# Altium schematic symbol library Altium-CONN.SchLib: 131 symbols
Pins are listed as number, name and electrical type; pins without a type are passive.

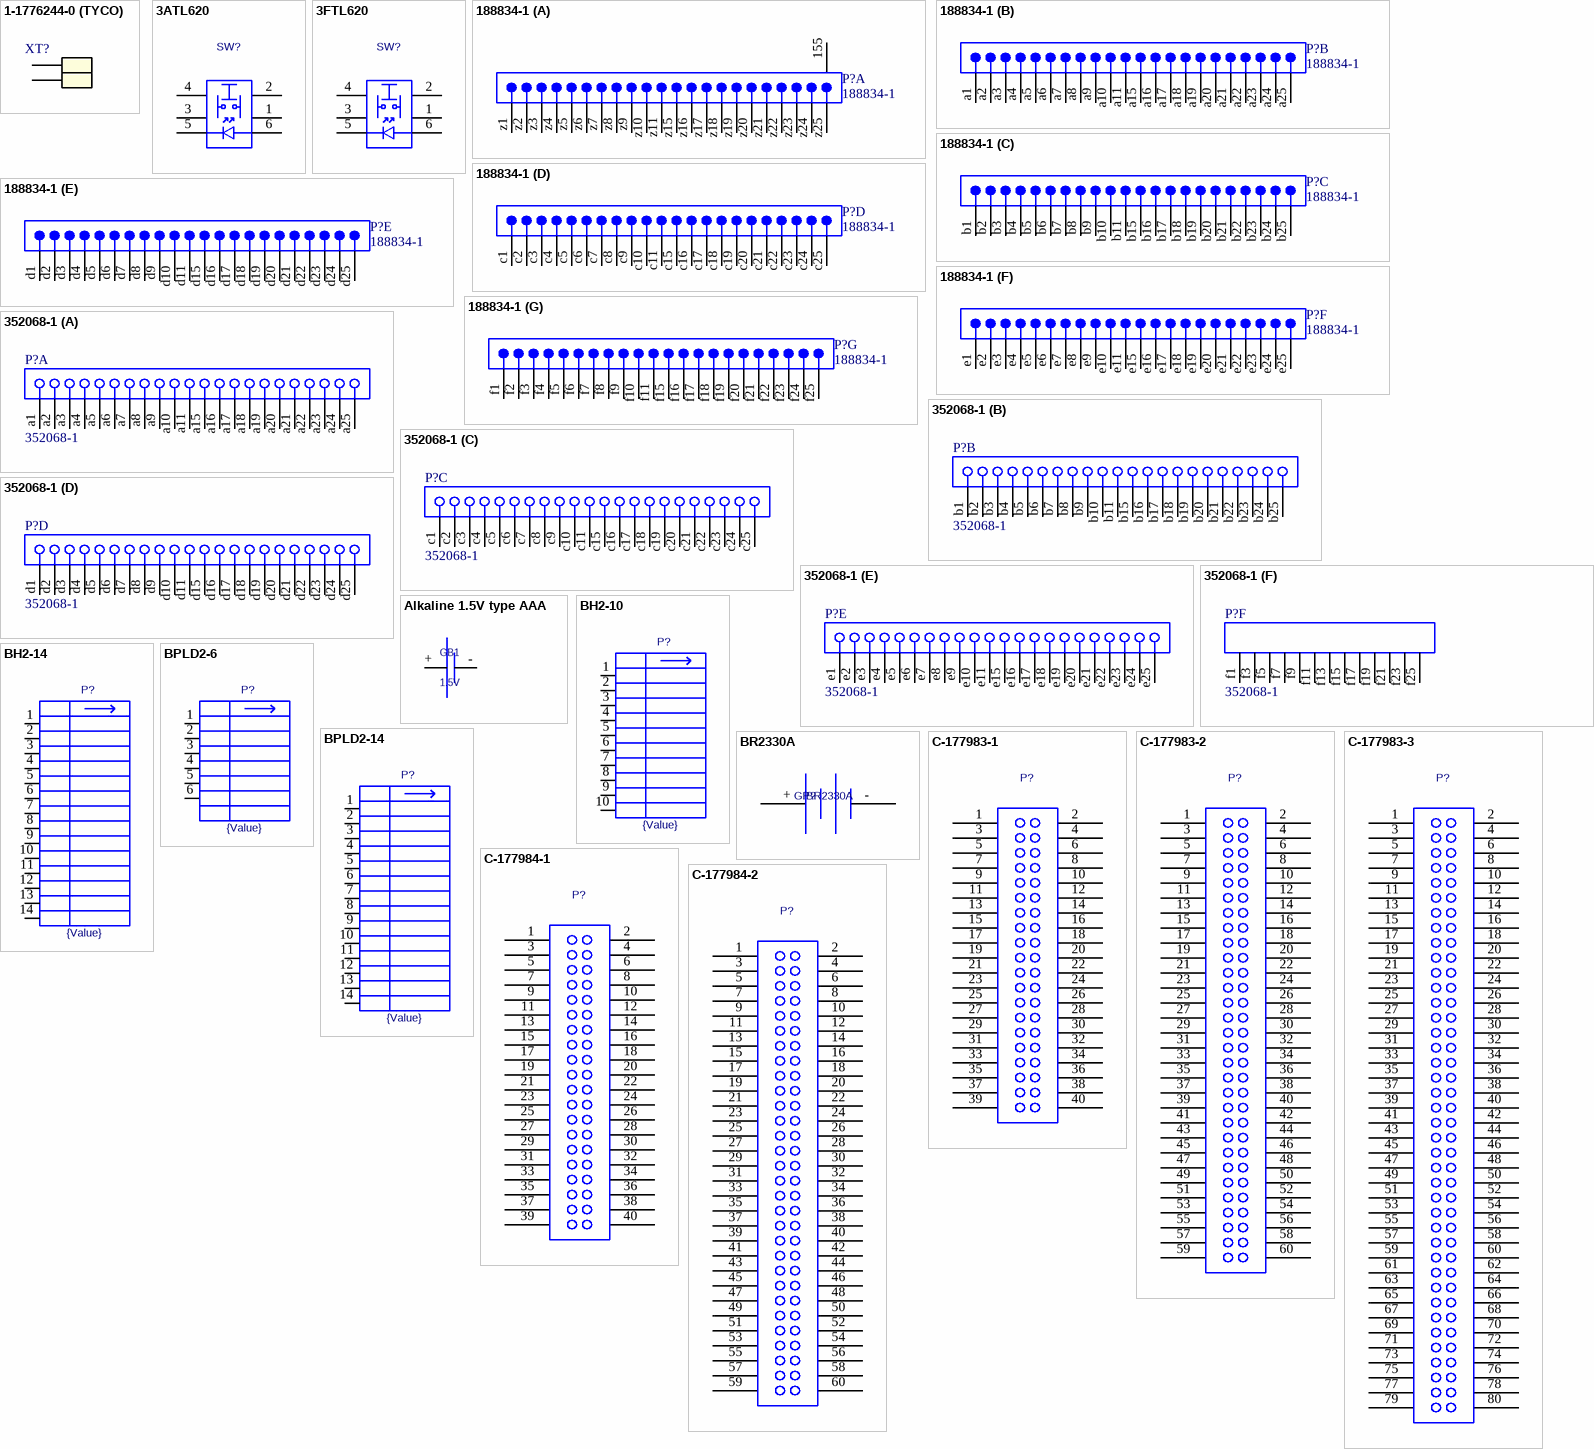
[diagram p0: symbols 1-1776244-0 (TYCO) to C-177984-2]

## 1-1776244-0 (TYCO)
designator XT?  (value not drawn)
Винтовой клеммник 5.0мм
footprint 1-1776244-0 (Винтовой клеммник 5.0мм)
pins: 1, 2

## 3ATL620
designator SW?  (value not drawn)
Multimec switch 3Aseries, w/greenled, 9.2mm; Value: *
footprint 3ATL600 (through-hole, multimec switch w/led)
pins: 1 pin1, 2 pin3, 3 pin1, 4 pin1, 5 k, 6 a

## 3FTL620
designator SW?  (value not drawn)
Multimec switch 3F series, w/greenled, 12.7mm; Value: *
footprint 3FTL600 (through-hole, multimec switch w/led)
pins: 1 pin1, 2 pin3, 3 pin1, 4 pin1, 5 k, 6 a

## 188834-1
designator P?
Z-Pack 2mm Hard Metric Type A 154 Position Male PCB Mount Connector; ContactMaterial: Phosphor Bronze; ContactPlating: Gold (30) over Nickel (50); Positions: 154; PCB_Layout: Complies with manufacturer's recommendation.; DrillSize: Corresponds to nominal value.; Published: 17-Jul-2002; LatestRevisionDate: 29-May-2009; LatestRevisionNote: Component Body Added.; DatasheetVersion: 22-Jan-1999; PackageVersion: 22-Jan-1999; PackageReference: 188834-1; Publisher: Altium Limited; Orientation: Vertical; HousingMaterial: Glass-Filled Polyester, UL 94V-0; ComponentLink1Description: Manufacturer Link; ComponentLink1URL: http://www.tycoelectronics.com/; ComponentLink2Description: Packaging Specification; ComponentLink2URL: http://ecommas.tycoelectronics.com/commerce/DocumentDelivery/DDEController?Action=showdoc&DocId=Customer+Drawing%7F188834%7FB%7Fpdf%7FEnglish%7FENG_CD_188834_B.pdf; ComponentLink3Description: Iges Model; ComponentLink3URL: http://catalog.tycoelectronics.com/TE/docs/cadgeo/0/75/38570.tar.gz
footprint 188834-1 (Connector; CompactPCI; 154 Position; Vertical)
signal-integrity model CompactPCI
part A pins: 155 MH1, z1, z2, z3, z4, z5, z6, z7, z8, z9, z10, z11, z15, z16, z17, z18, z19, z20, z21, z22, z23, z24, z25
part B pins: a1, a2, a3, a4, a5, a6, a7, a8, a9, a10, a11, a15, a16, a17, a18, a19, a20, a21, a22, a23, a24, a25
part C pins: b1, b2, b3, b4, b5, b6, b7, b8, b9, b10, b11, b15, b16, b17, b18, b19, b20, b21, b22, b23, b24, b25
part D pins: c1, c2, c3, c4, c5, c6, c7, c8, c9, c10, c11, c15, c16, c17, c18, c19, c20, c21, c22, c23, c24, c25
part E pins: d1, d2, d3, d4, d5, d6, d7, d8, d9, d10, d11, d15, d16, d17, d18, d19, d20, d21, d22, d23, d24, d25
part F pins: e1, e2, e3, e4, e5, e6, e7, e8, e9, e10, e11, e15, e16, e17, e18, e19, e20, e21, e22, e23, e24, e25
part G pins: f1, f2, f3, f4, f5, f6, f7, f8, f9, f10, f11, f15, f16, f17, f18, f19, f20, f21, f22, f23, f24, f25

## 352068-1
designator P?
Z-Pack 2mm Hard Metric Type A 110 Position Female PCB Mount Connector; ContactMaterial: Phosphor Bronze; ContactPlating: Gold (30) over Nickel (50); Positions: 110; PCB_Layout: Complies with manufacturer's recommendation.; DrillSize: Corresponds to nominal value.; Published: 17-Jul-2002; LatestRevisionDate: 29-May-2009; LatestRevisionNote: Component Body Added.; DatasheetVersion: 19-Jul-2000; PackageVersion: 19-Jul-2000; PackageReference: 352068-1; Publisher: Altium Limited; Orientation: Right Angle; HousingMaterial: Glass-Filled Polyester, UL 94V-0; ComponentLink1Description: Manufacturer Link; ComponentLink1URL: http://www.tycoelectronics.com/; ComponentLink2Description: Packaging Specification; ComponentLink2URL: http://ecommas.tycoelectronics.com/commerce/DocumentDelivery/DDEController?Action=showdoc&DocId=Customer+Drawing%7F352068%7FG%7Fpdf%7FEnglish%7FENG_CD_352068_G.pdf; ComponentLink3Description: Iges Model; ComponentLink3URL: http://catalog.tycoelectronics.com/TE/docs/cadgeo/2/36/34632.tar.gz
footprint 352068-1 (Connector; CompactPCI; 110 Position; Right Angle)
signal-integrity model CompactPCI
part A pins: a1, a2, a3, a4, a5, a6, a7, a8, a9, a10, a11, a15, a16, a17, a18, a19, a20, a21, a22, a23, a24, a25
part B pins: b1, b2, b3, b4, b5, b6, b7, b8, b9, b10, b11, b15, b16, b17, b18, b19, b20, b21, b22, b23, b24, b25
part C pins: c1, c2, c3, c4, c5, c6, c7, c8, c9, c10, c11, c15, c16, c17, c18, c19, c20, c21, c22, c23, c24, c25
part D pins: d1, d2, d3, d4, d5, d6, d7, d8, d9, d10, d11, d15, d16, d17, d18, d19, d20, d21, d22, d23, d24, d25
part E pins: e1, e2, e3, e4, e5, e6, e7, e8, e9, e10, e11, e15, e16, e17, e18, e19, e20, e21, e22, e23, e24, e25
part F pins: f1, f3, f5, f7, f9, f11, f13, f15, f17, f19, f21, f23, f25

## Alkaline 1.5V type AAA
designator GB1, comment 1.5V
1.5V battery
footprint Battery AAA (Battery type AAA)
pins: +, -

## BH2-10
designator P?  value {Value}  (hidden comment: *)
BH2-10
footprint BH2-10
footprint 10FDZ-BT(S) (2.54mm pitch/Connectors for FPC and membrane switch leads)
pins: 1, 2, 3, 4, 5, 6, 7, 8, 9, 10

## BH2-14
designator P?  value {Value}  (hidden comment: *)
BH2-14
footprint BH2-14
pins: 1, 2, 3, 4, 5, 6, 7, 8, 9, 10, 11, 12, 13, 14

## BPLD2-6
designator P?  value {Value}  (hidden comment: *)
BPLD2-6
footprint BPLD2-6
pins: 1, 2, 3, 4, 5, 6

## BPLD2-14
designator P?  value {Value}  (hidden comment: *)
BPLD2-14
footprint BPLD2-14
pins: 1, 2, 3, 4, 5, 6, 7, 8, 9, 10, 11, 12, 13, 14

## BR2330A
designator GP?
High operating temperature lithium batteries; Value: BR2330A
footprint BR2330A
pins: +, -

## C-177983-1
designator P?  (value not drawn)
Receptacle, 40 pins, 0.8mm Pitch; Value: *; Manufacture: www.tycoelectronics.com
footprint C-0177983-1 (Receptacle, 40 pin, pitch 0.8mm)
pins: 1, 2, 3, 4, 5, 6, 7, 8, 9, 10, 11, 12, 13, 14, 15, 16, 17, 18, 19, 20, 21, 22, 23, 24, 25, 26, 27, 28, 29, 30, 31, 32, 33, 34, 35, 36, 37, 38, 39, 40

## C-177983-2
designator P?  (value not drawn)
Receptacle, 60 pins, 0.8mm Pitch; Value: *; Manufacture: www.tycoelectronics.com
footprint C-0177983-2 (Receptacle, 60 pin, pitch 0.8mm)
pins: 1, 2, 3, 4, 5, 6, 7, 8, 9, 10, 11, 12, 13, 14, 15, 16, 17, 18, 19, 20, 21, 22, 23, 24, 25, 26, 27, 28, 29, 30, 31, 32, 33, 34, 35, 36, 37, 38, 39, 40, 41, 42, 43, 44, 45, 46, 47, 48, 49, 50, 51, 52, 53, 54, 55, 56, 57, 58, 59, 60

## C-177983-3
designator P?  (value not drawn)
Receptacle, 80 pins, 0.8mm Pitch; Value: *; Manufacture: www.tycoelectronics.com
footprint C-0177983-3 (Receptacle, 80 pin, pitch 0.8mm)
pins: 1, 2, 3, 4, 5, 6, 7, 8, 9, 10, 11, 12, 13, 14, 15, 16, 17, 18, 19, 20, 21, 22, 23, 24, 25, 26, 27, 28, 29, 30, 31, 32, 33, 34, 35, 36, 37, 38, 39, 40, 41, 42, 43, 44, 45, 46, 47, 48, 49, 50, 51, 52, 53, 54, 55, 56, 57, 58, 59, 60, 61, 62, 63, 64, 65, 66, 67, 68, 69, 70, 71, 72, 73, 74, 75, 76, 77, 78, 79, 80

## C-177984-1
designator P?  (value not drawn)
Plug, 40 pins, 0.8mm Pitch; Value: *; Manufacture: www.tycoelectronics.com
footprint C-0177984-1 (Plug, 40 pin, pitch 0.8mm)
pins: 1, 2, 3, 4, 5, 6, 7, 8, 9, 10, 11, 12, 13, 14, 15, 16, 17, 18, 19, 20, 21, 22, 23, 24, 25, 26, 27, 28, 29, 30, 31, 32, 33, 34, 35, 36, 37, 38, 39, 40

## C-177984-2
designator P?  (value not drawn)
Plug, 60 pins, 0.8mm Pitch; Value: *; Manufacture: www.tycoelectronics.com
footprint C-0177984-2 (Plug, 60 pin, pitch 0.8mm)
pins: 1, 2, 3, 4, 5, 6, 7, 8, 9, 10, 11, 12, 13, 14, 15, 16, 17, 18, 19, 20, 21, 22, 23, 24, 25, 26, 27, 28, 29, 30, 31, 32, 33, 34, 35, 36, 37, 38, 39, 40, 41, 42, 43, 44, 45, 46, 47, 48, 49, 50, 51, 52, 53, 54, 55, 56, 57, 58, 59, 60

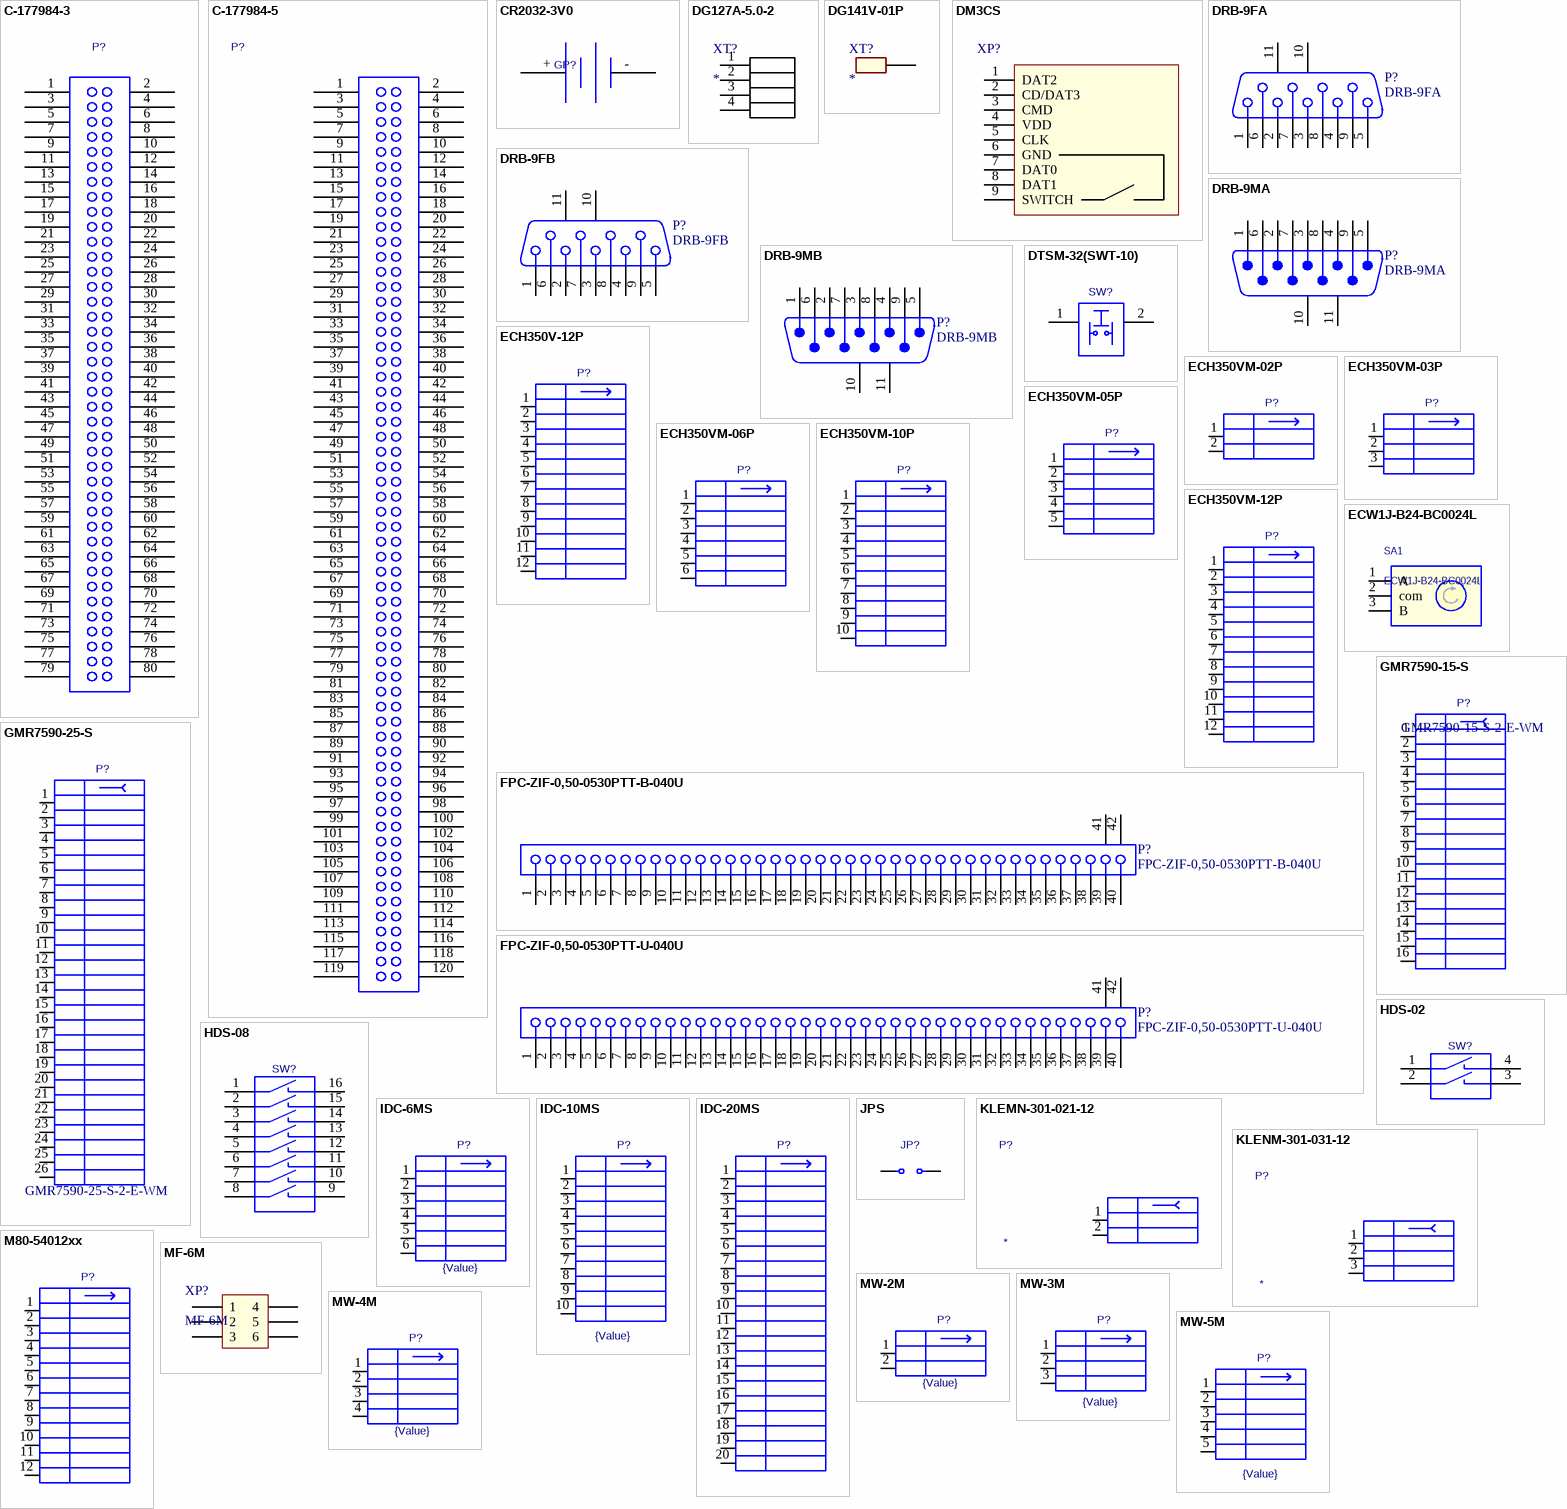
[diagram p1: symbols C-177984-3 to MW-5M]

## C-177984-3
designator P?  (value not drawn)
Plug, 80 pins, 0.8mm Pitch; Value: *; Manufacture: www.tycoelectronics.com
footprint C-0177984-3 (Plug, 80 pin, pitch 0.8mm)
pins: 1, 2, 3, 4, 5, 6, 7, 8, 9, 10, 11, 12, 13, 14, 15, 16, 17, 18, 19, 20, 21, 22, 23, 24, 25, 26, 27, 28, 29, 30, 31, 32, 33, 34, 35, 36, 37, 38, 39, 40, 41, 42, 43, 44, 45, 46, 47, 48, 49, 50, 51, 52, 53, 54, 55, 56, 57, 58, 59, 60, 61, 62, 63, 64, 65, 66, 67, 68, 69, 70, 71, 72, 73, 74, 75, 76, 77, 78, 79, 80

## C-177984-5
designator P?  (value not drawn)
Plug, 120 pins, 0.8mm Pitch; Value: *; Manufacture: www.tycoelectronics.com
footprint C-0177984-5 (Plug, 120 pin, pitch 0.8mm)
pins: 1, 2, 3, 4, 5, 6, 7, 8, 9, 10, 11, 12, 13, 14, 15, 16, 17, 18, 19, 20, 21, 22, 23, 24, 25, 26, 27, 28, 29, 30, 31, 32, 33, 34, 35, 36, 37, 38, 39, 40, 41, 42, 43, 44, 45, 46, 47, 48, 49, 50, 51, 52, 53, 54, 55, 56, 57, 58, 59, 60, 61, 62, 63, 64, 65, 66, 67, 68, 69, 70, 71, 72, 73, 74, 75, 76, 77, 78, 79, 80, 81, 82, 83, 84, 85, 86, 87, 88, 89, 90, 91, 92, 93, 94, 95, 96, 97, 98, 99, 100, 101, 102, 103, 104, 105, 106, 107, 108, 109, 110, 111, 112, 113, 114, 115, 116, 117, 118, 119, 120

## CR2032-3V0
designator GP?
Litium 3V0
footprint CH74-2032/BH612032P (Batery holder vertical)
footprint BH800 (Battery holder (2032, 2025, 2016))
pins: +, -

## DG127A-5.0-2
designator XT?
Клеммник винтовой двухрядный шаг 5.0 мм 2х2 контактов
footprint DG127A-5.0-2 (Клеммник винтовой двухрядный 5.0мм, 2х2 контакта)
pins: 1, 2, 3, 4

## DG141V-01P
designator XT?
Клеммник нажимной 2.54мм
footprint DG141V-01P (Клеммник нажимной 2.54мм)
pins: 1

## DM3CS
designator XP?  (value not drawn)
microSD card holder
footprint DM3CS (microSD card connector)
pins: 1 DAT2, 2 CD/DAT3, 3 CMD, 4 VDD, 5 CLK, 6 GND, 7 DAT0, 8 DAT1, 9 SWITCH

## DRB-9FA
designator P?
DSUB 9F , Right Angle, 7.2mm
footprint DRB-9FA (Connector; DSUB, 9 Position; Right Angle, 7.2mm)
pins: 1, 2, 3, 4, 5, 6, 7, 8, 9, 10 MH1, 11 MH2

## DRB-9FB
designator P?
DSUB 9F , Right Angle, 9.4mm
footprint DRB-9FB (Connector; DSUB, 9 Position; Right Angle, 9.4mm)
pins: 1, 2, 3, 4, 5, 6, 7, 8, 9, 10 MH1, 11 MH2

## DRB-9MA
designator P?
DSUB 9M , Right Angle, 7.2mm
footprint DRB-9MA (Connector; DSUB; 9 Position; Right Angle, 7.2mm)
pins: 1, 2, 3, 4, 5, 6, 7, 8, 9, 10 MH1, 11 MH2

## DRB-9MB
designator P?
DSUB 9B , Right Angle, 9.4mm
footprint DRB-9MB (Connector; DSUB; 9 Position; Right Angle, 9.4mm)
pins: 1, 2, 3, 4, 5, 6, 7, 8, 9, 10 MH1, 11 MH2

## DTSM-32(SWT-10)
designator SW?  (value not drawn)
DTSM-32(SWT-10); Value: *
footprint DTSM-32(SWT-10)
pins: 1 pin1, 2 pin3

## ECH350V-12P
designator P?  (value not drawn)
Headers(Sockets) for pluggable terminal blocks
footprint ECH350V-12P (Headers(Sockets) for pluggable terminal blocks)
pins: 1, 2, 3, 4, 5, 6, 7, 8, 9, 10, 11, 12

## ECH350VM-02P
designator P?  (value not drawn)
Headers(Sockets) for pluggable terminal blocks
footprint ECH350VM-02P (Headers(Sockets) for pluggable terminal blocks)
pins: 1, 2

## ECH350VM-03P
designator P?  (value not drawn)
Headers(Sockets) for pluggable terminal blocks
footprint ECH350VM-03P (Headers(Sockets) for pluggable terminal blocks)
pins: 1, 2, 3

## ECH350VM-05P
designator P?  (value not drawn)
Headers(Sockets) for pluggable terminal blocks
footprint ECH350VM-05P (Headers(Sockets) for pluggable terminal blocks)
pins: 1, 2, 3, 4, 5

## ECH350VM-06P
designator P?  (value not drawn)
Headers(Sockets) for pluggable terminal blocks
footprint ECH350VM-06P (Footprint not found)
pins: 1, 2, 3, 4, 5, 6

## ECH350VM-10P
designator P?  (value not drawn)
Headers(Sockets) for pluggable terminal blocks
footprint ECH350VM-10P (Headers(Sockets) for pluggable terminal blocks)
pins: 1, 2, 3, 4, 5, 6, 7, 8, 9, 10

## ECH350VM-12P
designator P?  (value not drawn)
Headers(Sockets) for pluggable terminal blocks
footprint ECH350VM-12P (Headers(Sockets) for pluggable terminal blocks)
pins: 1, 2, 3, 4, 5, 6, 7, 8, 9, 10, 11, 12

## ECW1J-B24-BC0024L
designator SA1
Digital Contacting Quardature Encoder
footprint ECW1J-B24-BC0024L (Quadrature Encoder Footprint)
pins: 1 A, 2 com, 3 B

## FPC-ZIF-0,50-0530PTT-B-040U
designator P?
SMT/ZIF FFC/FPC Connector - 0.5mm Spaced Bot Contact
footprint FPC0.50-B-040U (FFC / FPC Connector; 40 Position; 0.5mm Spaced)
pins: 1, 2, 3, 4, 5, 6, 7, 8, 9, 10, 11, 12, 13, 14, 15, 16, 17, 18, 19, 20, 21, 22, 23, 24, 25, 26, 27, 28, 29, 30, 31, 32, 33, 34, 35, 36, 37, 38, 39, 40, 41 MH1, 42 MH2

## FPC-ZIF-0,50-0530PTT-U-040U
designator P?
SMT/ZIF FFC/FPC Connector - 0.5mm Spaced Up Contact
footprint FPC0.50-U-040U (FFC / FPC Connector; 40 Position; 0.5mm Spaced)
pins: 1, 2, 3, 4, 5, 6, 7, 8, 9, 10, 11, 12, 13, 14, 15, 16, 17, 18, 19, 20, 21, 22, 23, 24, 25, 26, 27, 28, 29, 30, 31, 32, 33, 34, 35, 36, 37, 38, 39, 40, 41 MH1, 42 MH2

## GMR7590-15-S
designator P?, comment GMR7590-15-S-2-E-WM
Right Angle Micro-D Connectors; Value: GMR7590-15-S-2-E-WM
footprint GMR7590-15-S (Right Angle Micro-D Connectors)
pins: 1, 2, 3, 4, 5, 6, 7, 8, 9, 10, 11, 12, 13, 14, 15, 16

## GMR7590-25-S
designator P?, comment GMR7590-25-S-2-E-WM
Right Angle Micro-D Connectors; Value: GMR7590-25-S-2-E-WM
footprint GMR7590-25-S (Footprint not found)
pins: 1, 2, 3, 4, 5, 6, 7, 8, 9, 10, 11, 12, 13, 14, 15, 16, 17, 18, 19, 20, 21, 22, 23, 24, 25, 26

## HDS-02
designator SW?  (value not drawn)
Dip switch, 8pos, 1.27mm; Value: *
footprint HDS-2
pins: 1, 2, 3, 4

## HDS-08
designator SW?  (value not drawn)
Dip switch, 8pos, 1.27mm; Value: *
footprint HDS-8
pins: 1, 2, 3, 4, 5, 6, 7, 8, 9, 10, 11, 12, 13, 14, 15, 16

## IDC-6MS
designator P?  value {Value}  (hidden comment: *)
IDC-6MS
footprint IDC-6MS
pins: 1, 2, 3, 4, 5, 6

## IDC-10MS
designator P?  value {Value}  (hidden comment: *)
IDC-10MS
footprint IDC-10MS
footprint IDC-10 (Onboard) (IDC-10 (BHS-10) without holes)
pins: 1, 2, 3, 4, 5, 6, 7, 8, 9, 10

## IDC-20MS
designator P?  (value not drawn)
IDC-20MS
footprint IDC-20MS (Footprint not found)
pins: 1, 2, 3, 4, 5, 6, 7, 8, 9, 10, 11, 12, 13, 14, 15, 16, 17, 18, 19, 20

## JPS
designator JP?  (value not drawn)
JPS; Value: *
footprint JPS
pins: 1, 2

## KLEMN-301-021-12
designator P?
KLEMN-301-021-12; Value: *
footprint KLEMN-301-021-12
pins: 1, 2

## KLENM-301-031-12
designator P?
KLENM-301-031-12; Value: *
footprint KLEMN-301-031-12
pins: 1, 2, 3

## M80-54012xx
designator P?, comment {Value}  (value not drawn)
Harwin Male PC Tail with Board Mount, pitch 2mm, 12 pol; Value: {Value}
footprint M80-54012xx (Harwin Datamate Connectors  Male PC Tail with Board Mount, 2mm pitch)
pins: 1, 2, 3, 4, 5, 6, 7, 8, 9, 10, 11, 12

## MF-6M
designator XP?
Molex Male connector
footprint MF-6M (Molex Male Connector 6 pin)
footprint MF-6M ROT (Molex Rotated Male Connector 6 pin)
pins: 1, 2, 3, 4, 5, 6

## MW-2M
designator P?  value {Value}  (hidden comment: *)
2mm, 2pin, power connector
footprint MW-2M
pins: 1, 2

## MW-3M
designator P?  value {Value}  (hidden comment: *)
2mm, 3 pin, power connector
footprint MW-3M
pins: 1, 2, 3

## MW-4M
designator P?  value {Value}  (hidden comment: *)
2mm, 4 pin, power connector
footprint MW-4M
pins: 1, 2, 3, 4

## MW-5M
designator P?  value {Value}  (hidden comment: *)
2mm, 5 pin, power connector
footprint MW-5M
pins: 1, 2, 3, 4, 5

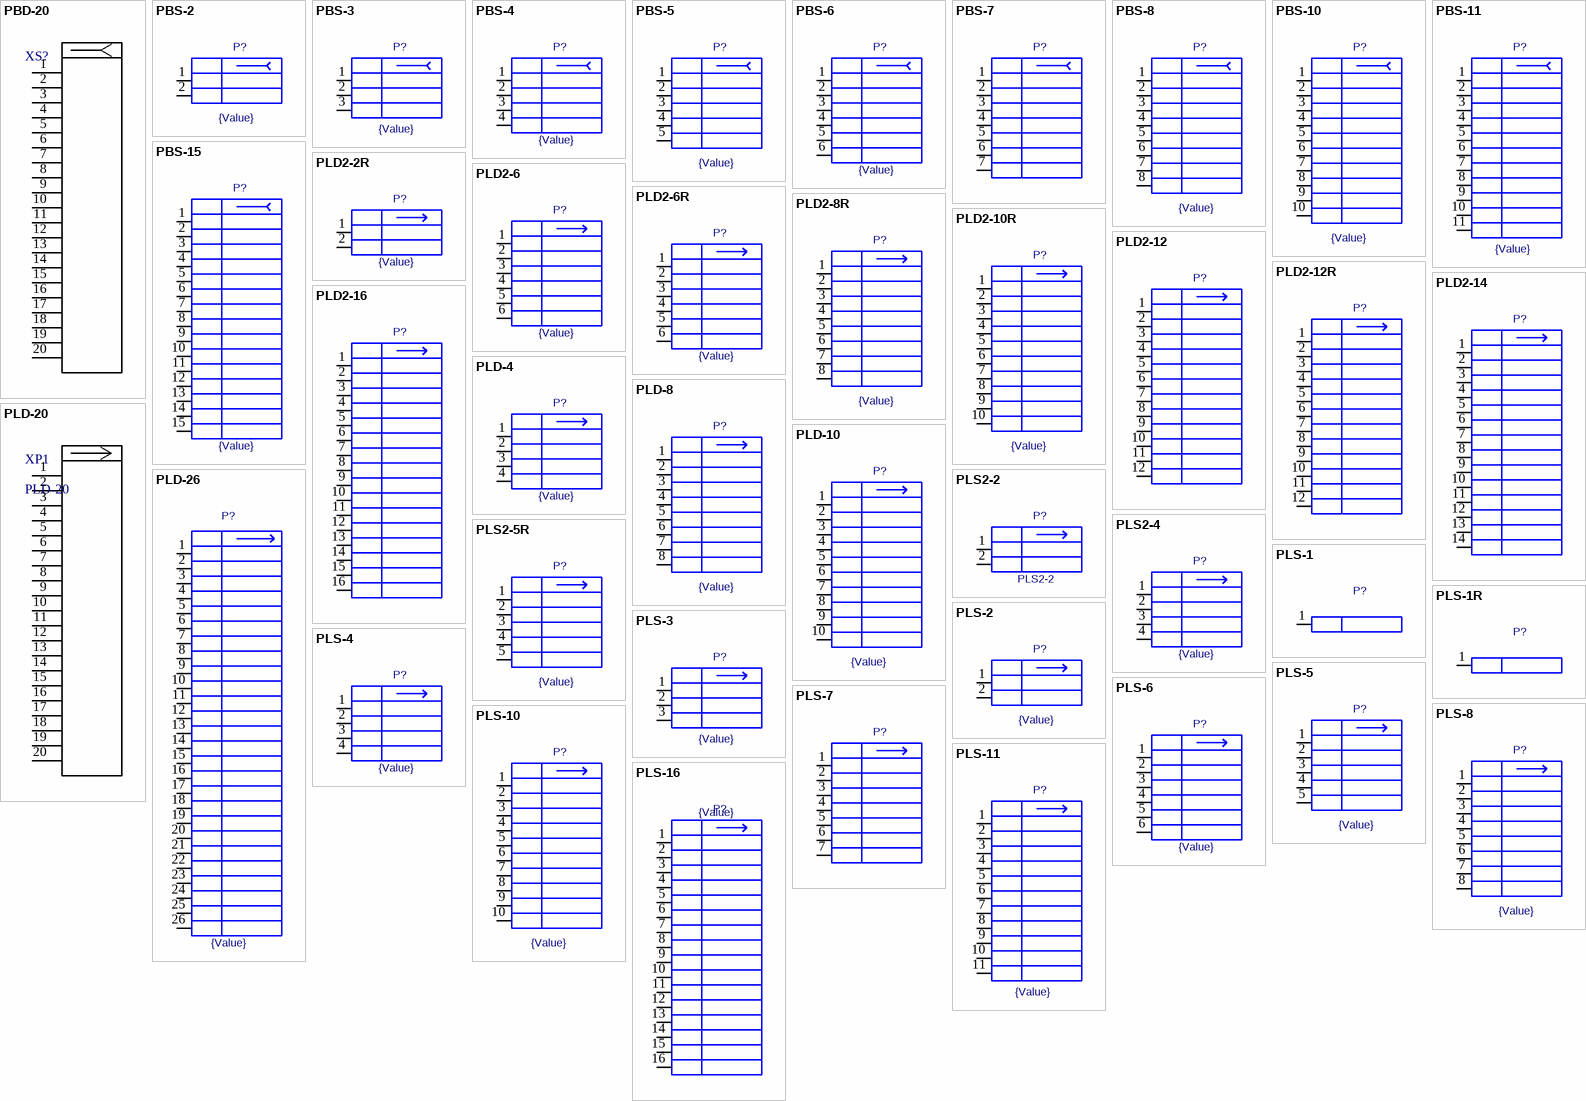
[diagram p2: symbols PBD-20 to PLS-16]

## PBD-20
designator XS?  (value not drawn)
2.54mm, 20 pin FEMALE connector
footprint PBD-20 (2.54mm, 20 pin, 2 row plug connector)
footprint PBD-20 Rot (2.54mm 2row 20pin FEMALE connector)
pins: 1, 2, 3, 4, 5, 6, 7, 8, 9, 10, 11, 12, 13, 14, 15, 16, 17, 18, 19, 20

## PBS-2
designator P?  value {Value}  (hidden comment: *)
PBS-2
footprint PLS2
pins: 1, 2

## PBS-3
designator P?  value {Value}  (hidden comment: *)
PBS-3
footprint PLS3
pins: 1, 2, 3

## PBS-4
designator P?  value {Value}  (hidden comment: *)
PBS-4
footprint PLS4
pins: 1, 2, 3, 4

## PBS-5
designator P?  value {Value}  (hidden comment: *)
PBS-5
footprint PLS5
pins: 1, 2, 3, 4, 5

## PBS-6
designator P?  value {Value}  (hidden comment: *)
PBS-6
footprint PLS6
pins: 1, 2, 3, 4, 5, 6

## PBS-7
designator P?  (value not drawn)
PBS-7
footprint PLS7
pins: 1, 2, 3, 4, 5, 6, 7

## PBS-8
designator P?  value {Value}  (hidden comment: *)
PBS-8
footprint PLS8
pins: 1, 2, 3, 4, 5, 6, 7, 8

## PBS-10
designator P?  value {Value}  (hidden comment: *)
PBS-10
footprint PLS10
pins: 1, 2, 3, 4, 5, 6, 7, 8, 9, 10

## PBS-11
designator P?  value {Value}  (hidden comment: *)
PBS-11
footprint PLS11
pins: 1, 2, 3, 4, 5, 6, 7, 8, 9, 10, 11

## PBS-15
designator P?  value {Value}  (hidden comment: *)
PBS-15
footprint PLS15
pins: 1, 2, 3, 4, 5, 6, 7, 8, 9, 10, 11, 12, 13, 14, 15

## PLD2-2R
designator P?  value {Value}  (hidden comment: *)
PLD2-2R
footprint PLD2-2R
pins: 1, 2

## PLD2-6
designator P?, comment {Value}
PLD2-6; Value: {Value}
footprint PLD2-6
pins: 1, 2, 3, 4, 5, 6

## PLD2-6R
designator P?  value {Value}  (hidden comment: *)
PLD2-6R
footprint PLD2-6R
pins: 1, 2, 3, 4, 5, 6

## PLD2-8R
designator P?  value {Value}  (hidden comment: *)
PLD2-8R
footprint PLD2-8R
pins: 1, 2, 3, 4, 5, 6, 7, 8

## PLD2-10R
designator P?  value {Value}  (hidden comment: *)
PLD2-10R
footprint PLD2-10R
pins: 1, 2, 3, 4, 5, 6, 7, 8, 9, 10

## PLD2-12
designator P?  (value not drawn)
PLD2-12, 2mm
footprint PLD2-12
pins: 1, 2, 3, 4, 5, 6, 7, 8, 9, 10, 11, 12

## PLD2-12R
designator P?  (value not drawn)
PLD2-12R, 2mm, right angle
footprint PLD2-12R (Footprint not found)
pins: 1, 2, 3, 4, 5, 6, 7, 8, 9, 10, 11, 12

## PLD2-14
designator P?  (value not drawn)
PLD2-14, 2mm
footprint PLD2-14
pins: 1, 2, 3, 4, 5, 6, 7, 8, 9, 10, 11, 12, 13, 14

## PLD2-16
designator P?  (value not drawn)
PLD2-16, 2mm
footprint PLD2-16
pins: 1, 2, 3, 4, 5, 6, 7, 8, 9, 10, 11, 12, 13, 14, 15, 16

## PLD-4
designator P?, comment {Value}
PLD-4; Value: {Value}
footprint PLD4
pins: 1, 2, 3, 4

## PLD-8
designator P?  value {Value}  (hidden comment: *)
PLD-8
footprint PLD8
pins: 1, 2, 3, 4, 5, 6, 7, 8

## PLD-10
designator P?  value {Value}  (hidden comment: *)
PLD-10
footprint PLD10
pins: 1, 2, 3, 4, 5, 6, 7, 8, 9, 10

## PLD-20
designator XP1
20 pin, 2 row, MALE connector
footprint PLD-20 ROT (2.54mm 2 row 20 pin MALE connector)
pins: 1, 2, 3, 4, 5, 6, 7, 8, 9, 10, 11, 12, 13, 14, 15, 16, 17, 18, 19, 20

## PLD-26
designator P?  value {Value}  (hidden comment: *)
PLD-26
footprint PLD26
pins: 1, 2, 3, 4, 5, 6, 7, 8, 9, 10, 11, 12, 13, 14, 15, 16, 17, 18, 19, 20, 21, 22, 23, 24, 25, 26

## PLS2-2
designator P?
2pin, pitch 2mm; Value: PLS2-2
footprint PLS2-2 (Footprint not found)
pins: 1, 2

## PLS2-4
designator P?  value {Value}  (hidden comment: *)
PLS2-4
footprint PLS2-4
pins: 1, 2, 3, 4

## PLS2-5R
designator P?  value {Value}  (hidden comment: *)
PLS2-5R
footprint PLS2-5R
pins: 1, 2, 3, 4, 5

## PLS-1
designator P?  (value not drawn)
PLS-1
footprint PLS1
pins: 1

## PLS-1R
designator P?  (value not drawn)
PLS-1R
footprint PLS1R
pins: 1

## PLS-2
designator P?  value {Value}  (hidden comment: *)
PLS-2
footprint PLS2
pins: 1, 2

## PLS-3
designator P?  value {Value}  (hidden comment: *)
PLS-3
footprint PLS3
pins: 1, 2, 3

## PLS-4
designator P?  value {Value}  (hidden comment: *)
PLS-4
footprint PLS4
pins: 1, 2, 3, 4

## PLS-5
designator P?  value {Value}  (hidden comment: *)
PLS-5
footprint PLS5
pins: 1, 2, 3, 4, 5

## PLS-6
designator P?  value {Value}  (hidden comment: *)
PLS-6
footprint PLS6
pins: 1, 2, 3, 4, 5, 6

## PLS-7
designator P?  (value not drawn)
PLS-7
footprint PLS7
pins: 1, 2, 3, 4, 5, 6, 7

## PLS-8
designator P?  value {Value}  (hidden comment: *)
PLS-8
footprint PLS8
pins: 1, 2, 3, 4, 5, 6, 7, 8

## PLS-10
designator P?  value {Value}  (hidden comment: *)
PLS-10
footprint PLS10
pins: 1, 2, 3, 4, 5, 6, 7, 8, 9, 10

## PLS-11
designator P?  value {Value}  (hidden comment: *)
PLS-11
footprint PLS11
pins: 1, 2, 3, 4, 5, 6, 7, 8, 9, 10, 11

## PLS-16
designator P?  value {Value}  (hidden comment: *)
PLS-16
footprint PLS16
pins: 1, 2, 3, 4, 5, 6, 7, 8, 9, 10, 11, 12, 13, 14, 15, 16

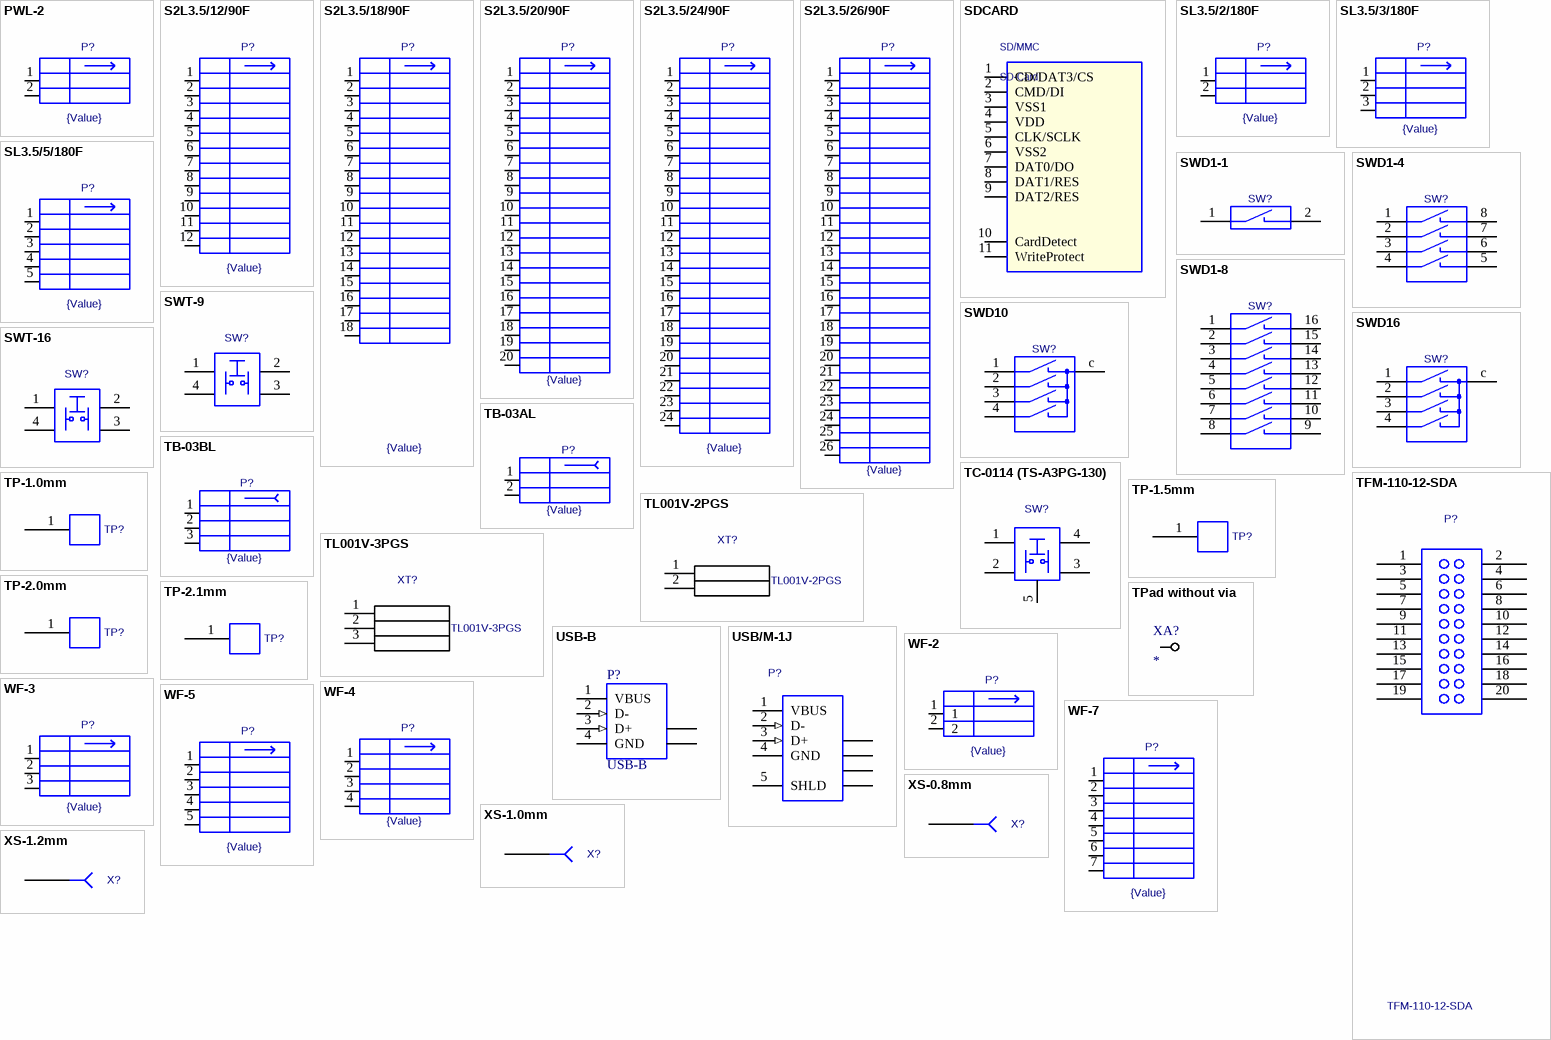
[diagram p3: symbols PWL-2 to XS-1.2mm]

## PWL-2
designator P?  value {Value}  (hidden comment: *)
PWL-2
footprint PWL-2
pins: 1, 2

## S2L3.5/12/90F
designator P?  value {Value}  (hidden comment: *)
S2L3.5/12/90F
footprint S2L3.5/12/90F
pins: 1, 2, 3, 4, 5, 6, 7, 8, 9, 10, 11, 12

## S2L3.5/18/90F
designator P?  value {Value}  (hidden comment: *)
S2L3.5/18/90F
footprint S2L3.5/18/90F
pins: 1, 2, 3, 4, 5, 6, 7, 8, 9, 10, 11, 12, 13, 14, 15, 16, 17, 18

## S2L3.5/20/90F
designator P?  value {Value}  (hidden comment: *)
S2L3.5/20/90F
footprint S2L3.5/20/90F (Footprint not found)
pins: 1, 2, 3, 4, 5, 6, 7, 8, 9, 10, 11, 12, 13, 14, 15, 16, 17, 18, 19, 20

## S2L3.5/24/90F
designator P?  value {Value}  (hidden comment: *)
S2L3.5/24/90F
footprint S2L3.5/24/90F
pins: 1, 2, 3, 4, 5, 6, 7, 8, 9, 10, 11, 12, 13, 14, 15, 16, 17, 18, 19, 20, 21, 22, 23, 24

## S2L3.5/26/90F
designator P?  value {Value}  (hidden comment: *)
S2L3.5/26/90F
footprint S2L3.5/26/90F
pins: 1, 2, 3, 4, 5, 6, 7, 8, 9, 10, 11, 12, 13, 14, 15, 16, 17, 18, 19, 20, 21, 22, 23, 24, 25, 26

## SDCARD
designator SD/MMC, comment SD-Card
Standart SD memory card
footprint SDCMF-10901W0T0 (SD-Card holder)
pins: 1 CD/DAT3/CS, 2 CMD/DI, 3 VSS1, 4 VDD, 5 CLK/SCLK, 6 VSS2, 7 DAT0/DO, 8 DAT1/RES, 9 DAT2/RES, 10 CardDetect, 11 WriteProtect

## SL3.5/2/180F
designator P?  value {Value}  (hidden comment: *)
SL3.5/2/180F
footprint SL3.5/2/180F
pins: 1, 2

## SL3.5/3/180F
designator P?  value {Value}  (hidden comment: *)
SL3.5/3/180F
footprint SL3.5/3/180F
pins: 1, 2, 3

## SL3.5/5/180F
designator P?  value {Value}  (hidden comment: *)
SL3.5/5/180F
footprint SL3.5/5/180F
pins: 1, 2, 3, 4, 5

## SWD1-1
designator SW?  (value not drawn)
SWD1-1; Value: *
footprint SWD1-1
pins: 1, 2

## SWD1-4
designator SW?  (value not drawn)
SWD1-4; Value: *
footprint SWD1-4 (Footprint not found)
pins: 1, 2, 3, 4, 5, 6, 7, 8

## SWD1-8
designator SW?  (value not drawn)
SWD1-8; Value: *
footprint SWD1-8 (Footprint not found)
pins: 1, 2, 3, 4, 5, 6, 7, 8, 9, 10, 11, 12, 13, 14, 15, 16

## SWD10
designator SW?  (value not drawn)
ROTARY; Value: *
footprint SWDxx-ROTARY
pins: 1, 2, 3, 4, c

## SWD16
designator SW?  (value not drawn)
ROTARY; Value: *
footprint SWDxx-ROTARY
pins: 1, 2, 3, 4, c

## SWT-9
designator SW?  (value not drawn)
SWT-9; Value: *
footprint SWT-9
pins: 1 pin1, 2 pin3, 3 pin1, 4 pin1

## SWT-16
designator SW?  (value not drawn)
SWT-9; Value: *
footprint SWT-16
pins: 1 pin1, 2 pin3, 3 pin1, 4 pin1

## TB-03AL
designator P?  value {Value}  (hidden comment: TB-03AL)
TB-03AL, angle 60, 2 pin
footprint TB-03AL (angle 60, 2pin)
pins: 1, 2

## TB-03BL
designator P?  value {Value}  (hidden comment: *)
TB-03BL, angle 60, 3pin
footprint TB-03BL (angle 60, 3pin)
pins: 1, 2, 3

## TC-0114 (TS-A3PG-130)
designator SW?  (value not drawn)
Tact switch
footprint TS-A3PG-130
pins: 1, 2, 3, 4, 5

## TFM-110-12-SDA
designator P?
SMT HIGH RELIABLE HEADER; Manufacture: www.samtec.com; Value: TFM-110-12-SDA
footprint TFM-110-12-SDA
pins: 1, 2, 3, 4, 5, 6, 7, 8, 9, 10, 11, 12, 13, 14, 15, 16, 17, 18, 19, 20

## TL001V-2PGS
designator XT?  value TL001V-2PGS  (hidden comment: *)
Single Level 3.5 mm Pitch Vertical PCB Terminal
footprint TL001V-2PGS
pins: 1, 2

## TL001V-3PGS
designator XT?  value TL001V-3PGS  (hidden comment: *)
Single Level 3.5 mm Pitch Vertical PCB Terminal
footprint TL001V-3PGS
pins: 1, 2, 3

## TP-1.0mm
designator TP?  (value not drawn)
via-1.0mm; Value: *
footprint TP-1.0mm
pins: 1

## TP-1.5mm
designator TP?  (value not drawn)
via-1.5mm; Value: *
footprint TP-1.5mm
pins: 1

## TP-2.0mm
designator TP?  (value not drawn)
via-2.0mm; Value: *
footprint TP-2.0mm
pins: 1

## TP-2.1mm
designator TP?  (value not drawn)
via-2.1mm; Value: *
footprint TP-2.1mm
pins: 1

## TPad without via
designator XA?
pad for soldering; Value: *
footprint TPad-2x1mm (pad-2x1mm)
footprint TPad-3x1.5mm (Pad-3x1.5mm)
footprint TPad-4x2mm (Pad-4x2mm)
footprint TPad-5x2.5mm (Pad-5x2.5mm)
pins: 0

## USB-B
designator P?
USB, Right Angle, Thru-Hole, B Type, Receptacle, 4 Position, White; ContactMaterial: Phosphor Bronze; ContactPlating: Gold over Nickel; TerminationLength: 3.00mm [0.118in.]; PCB_Layout: Complies with manufacturer's recommendation.; DrillSize: Corresponds to nominal value.; PanelGround: Without; Published: 15-Jul-2004; DatasheetDocument: 02-Jun-2001; PackageDocument: 02-Jun-2001; PackageReference: 1470156; Publisher: Altium Limited; HousingMaterial: Glass-Filled Thermoplastic; ComponentLink1Description: Manufacturer Link; ComponentLink1URL: http://www.tycoelectronics.com/; ComponentLink2Description: Packaging Specification; ComponentLink2URL: http://ecommas.tycoelectronics.com/commerce/DocumentDelivery/DDEController?Action=showdoc&DocId=Customer+Drawing%7F1470156%7FO%7Ftif%7FEnglish%7FC_1470156_O.tif
footprint USB2.5-2H4D (Connector; USB1Type B, Thru-Hole; 4 Position; Right Angle)
pins: 1 VBUS (power) "Power", 2 D- (in) "-DATA", 3 D+ (in) "+DATA", 4 GND (power) "Ground", 5 SHLD "Shield", 6 SHLD "Shield"

## USB/M-1J
designator P?  (value not drawn)
USB/M-1J; ContactMaterial: Copper Alloy; ContactPlating: Gold (30); PanelGround: Without; PCB_Layout: Complies with manufacturer's recommendation.; DrillSize: Corresponds to nominal value.; ComponentLink1DescBC: Manufacturer Link; ComponentLink2DescA4: Packaging Specification; Published: 15-Jul-2004; DatasheetDocument: 27-Jun-2003; PackageDocument: 27-Jun-2003; PackageReference: 440247; Publisher: Altium Limited; HousingMaterial: Thermoplastic; ComponentLink1URL: http://www.tycoelectronics.com/; ComponentLink2URL: http://ecommas.tycoelectronics.com/commerce/DocumentDelivery/DDEController?Action=showdoc&DocId=Customer+Drawing%7F440247%7FD%7Fpdf%7FEnglish%7FC_440247_D.pdf; Value: *
footprint 440247
pins: 1 VBUS (power), 2 D- (in), 3 D+ (in), 4 GND (power), 5 SHLD, 6 SHLD, 7 SHLD, 8 SHLD, 9 SHLD

## WF-2
designator P?  value {Value}  (hidden comment: *)
WF-2
footprint WF-2
pins: 1, 2

## WF-3
designator P?  value {Value}  (hidden comment: *)
WF-3
footprint WF-3
pins: 1, 2, 3

## WF-4
designator P?  value {Value}  (hidden comment: *)
WF-4
footprint WF-4
pins: 1, 2, 3, 4

## WF-5
designator P?  value {Value}  (hidden comment: *)
WF-5
footprint WF-5
pins: 1, 2, 3, 4, 5

## WF-7
designator P?  value {Value}  (hidden comment: *)
WF-7
footprint WF-7
pins: 1, 2, 3, 4, 5, 6, 7

## XS-0.8mm
designator X?  (value not drawn)
XS-0.8mm; Value: *
footprint XS-0.8mm
pins: 1

## XS-1.0mm
designator X?  (value not drawn)
XS-1.0mm; Value: *
footprint XS-1.0mm
pins: 1

## XS-1.2mm
designator X?  (value not drawn)
XS-1.2mm; Value: *
footprint XS-1.2mm
pins: 1